# EAGLE library part POS (library minicirNew)
MiniCircuits POS-x VCO, through hole package
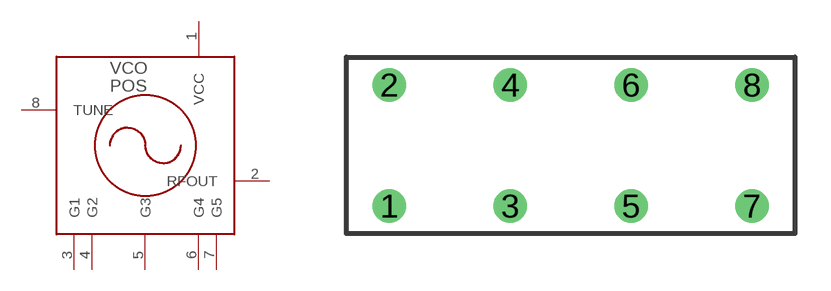
[diagram p7: symbol with the pads of A01; footprint A01]

Designator prefix VCO

## POS  [A01]
1  VCC  in
2  RFOUT  out
3  G1  sup
4  G2  sup
5  G3  sup
6  G4  sup
7  G5  sup
8  TUNE  in

## Footprint A01 (pad centres in mm)
CASE STYLE A01 Source: minicircuits.com .. PBP-10.7+.pdf
drill 0.9 pad 1.422: 1 -10.16,-3.81; 2 -10.16,1.27; 3 -5.08,-3.81; 4 -5.08,1.27; 5 0,-3.81; 6 0,1.27; 7 5.08,-3.81; 8 5.08,1.27